# Altium footprint library QFN.PcbLib: 17 footprints (part 1 of 2)
Each footprint in its own frame and in the unit in brackets; x right, y up, seen from the top. Pads: shape width x height; smd on the part's side, far side on the other; paste and mask are expansions set on the pad; w line width, h text height; cw(c..) or ccw(c..) is an arc to the next point about the centre after c.
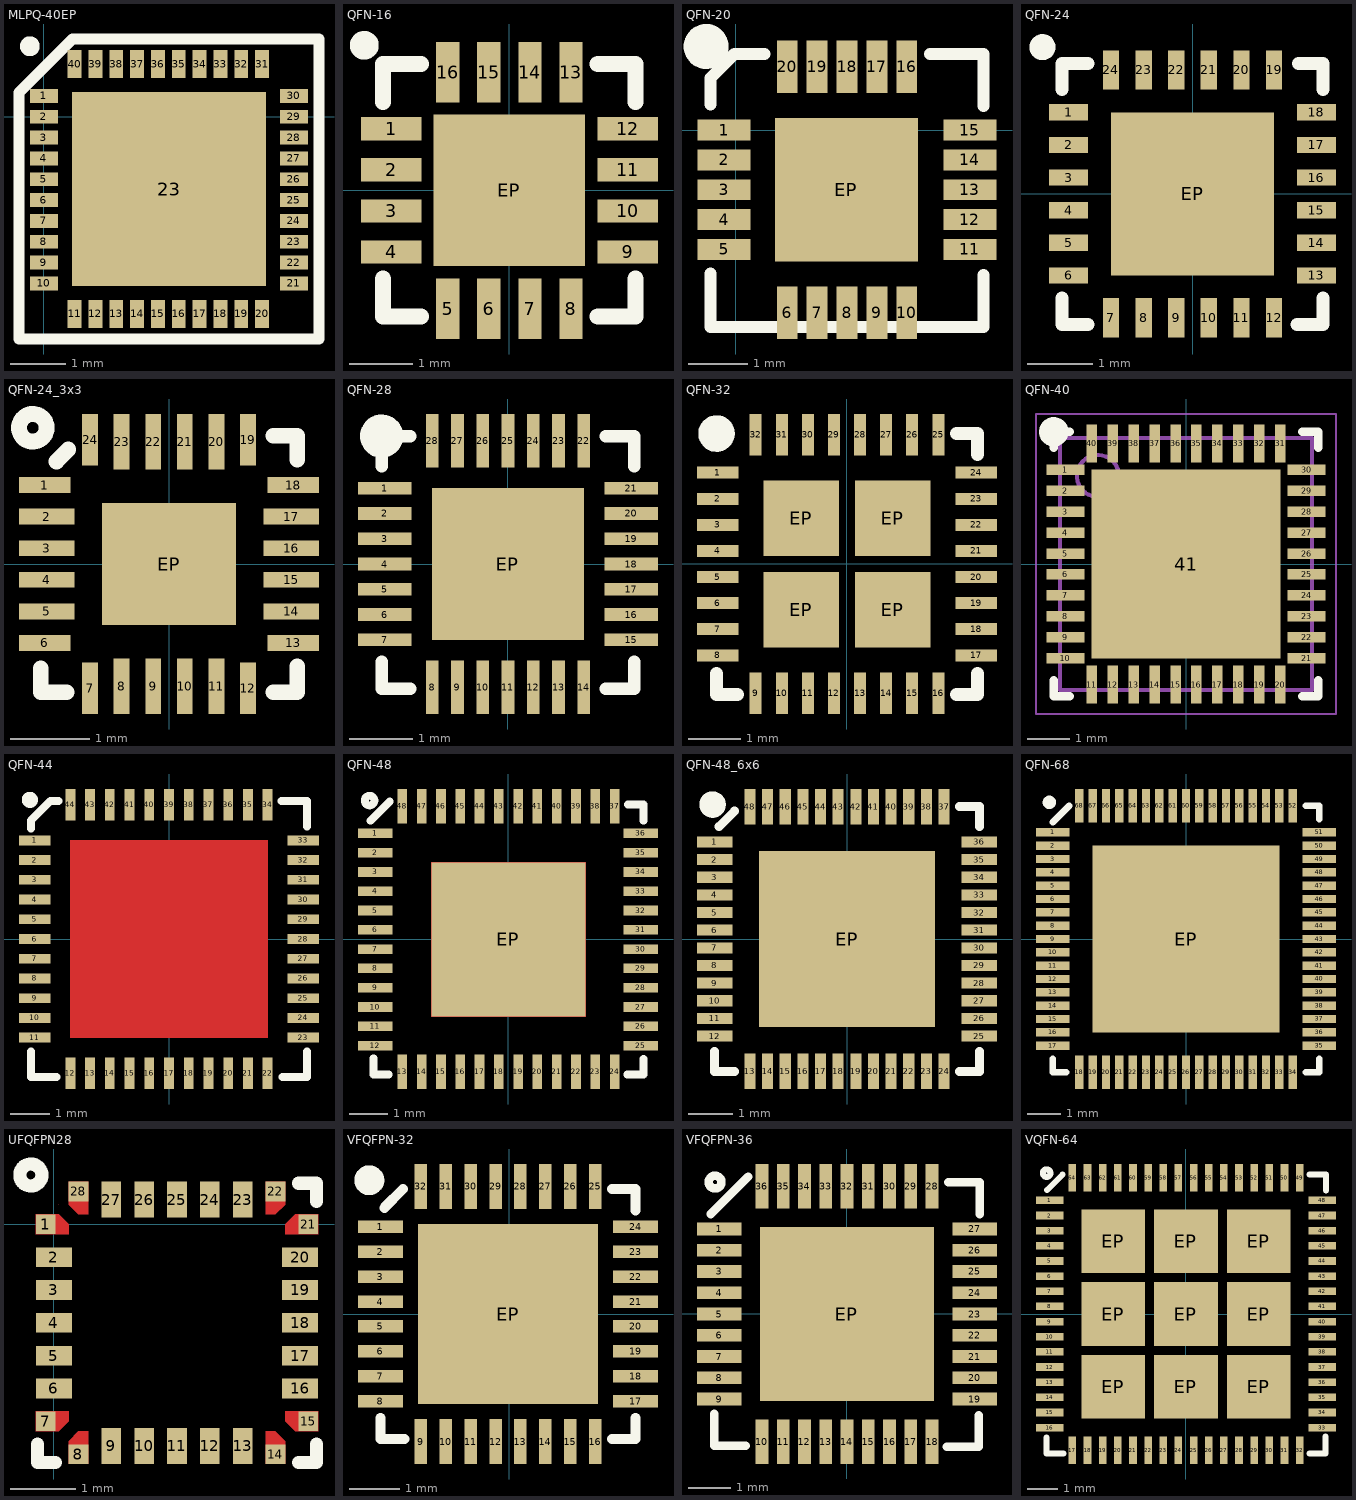
[diagram p0: the footprints below, top view; thin cyan lines are the x and y axes]

## MLPQ-40EP [mm]
pads (41):
  rect 0.5x0.25 smd: 1(0,0.375) 2(0,0) 3(0,-0.375) 4(0,-0.75) 5(0,-1.125) 6(0,-1.5) 7(0,-1.875) 8(0,-2.25) 9(0,-2.625) 10(0,-3) 21(4.5,-3) 22(4.5,-2.625) 23(4.5,-2.25) 24(4.5,-1.875) 25(4.5,-1.5) 26(4.5,-1.125) 27(4.5,-0.75) 28(4.5,-0.375) 29(4.5,0) 30(4.5,0.375)
  rect 0.25x0.5 smd: 11(0.55,-3.55) 12(0.925,-3.55) 13(1.3,-3.55) 14(1.675,-3.55) 15(2.05,-3.55) 16(2.425,-3.55) 17(2.8,-3.55) 18(3.175,-3.55) 19(3.55,-3.55) 20(3.925,-3.55) 31(3.925,0.95) 32(3.55,0.95) 33(3.175,0.95) 34(2.8,0.95) 35(2.425,0.95) 36(2.05,0.95) 37(1.675,0.95) 38(1.3,0.95) 39(0.925,0.95) 40(0.55,0.95)
  rect 3.5x3.5 smd: 23(2.25,-1.3)
Top Overlay:
  circle w0.254: c-0.254,1.27 r0.05
  lines w0.2: -0.45,-4 4.95,-4 4.95,1.212 4.95,1.4 0.511,1.4 -0.45,0.439 -0.45,-4
3D body "User Library-QFN 40 5x5.STEP": height 0.73, standoff -0.02, extent -0.251,-3.801 4.751,1.201

## QFN-16 [mm]
pads (17):
  rect 0.96x0.37 smd: 1(-1.875,0.975) 2(-1.875,0.325) 3(-1.875,-0.325) 4(-1.875,-0.975) 9(1.875,-0.975) 10(1.875,-0.325) 11(1.875,0.325) 12(1.875,0.975)
  rect 0.37x0.96 smd: 5(-0.975,-1.875) 6(-0.325,-1.875) 7(0.325,-1.875) 8(0.975,-1.875) 13(0.975,1.875) 14(0.325,1.875) 15(-0.325,1.875) 16(-0.975,1.875)
  rect 2.4x2.4 smd: EP(0,0)
Top Overlay:
  circle w0.254: c-2.3,2.3 r0.1
  lines w0.254: -2,-1.4 -2,-2 -1.4,-2 ; -2,1.4 -2,2 -1.4,2 ; 1.4,-2 2,-2 2,-1.4 ; 1.4,2 2,2 2,1.4
3D body "User Library-qfn16-4x4with pad.STEP": height 0.92, standoff 0, extent -2,-2 2,2

## QFN-20 [mm]
pads (21):
  rect 0.88x0.35 smd: 1(-0.2,0) 2(-0.2,-0.5) 3(-0.2,-1) 4(-0.2,-1.5) 5(-0.2,-2) 11(3.92,-2) 12(3.92,-1.5) 13(3.92,-1) 14(3.92,-0.5) 15(3.92,0)
  rect 0.35x0.88 smd: 6(0.86,-3.06) 7(1.36,-3.06) 8(1.86,-3.06) 9(2.36,-3.06) 10(2.86,-3.06) 16(2.86,1.06) 17(2.36,1.06) 18(1.86,1.06) 19(1.36,1.06) 20(0.86,1.06)
  rect 2.4x2.4 smd: EP(1.85,-1)
Top Overlay:
  circle w0.5: c-0.5,1.4 r0.125
  lines w0.2: -0.425,-2.4 -0.425,-3.3 4.15,-3.3 4.15,-2.425 ; -0.425,0.425 -0.425,0.875 -0.025,1.275 0.475,1.275 ; 3.25,1.275 4.15,1.275 4.15,0.4
3D body "User Library-qfn20-4x4 (1).step": height 0.92, standoff 0, extent -0.15,-2.995 3.85,1.005

## QFN-24 [mm]
pads (25):
  rect 0.6x0.25 smd: 1(-1.9,1.25) 2(-1.9,0.75) 3(-1.9,0.25) 4(-1.9,-0.25) 5(-1.9,-0.75) 6(-1.9,-1.25) 13(1.9,-1.25) 14(1.9,-0.75) 15(1.9,-0.25) 16(1.9,0.25) 17(1.9,0.75) 18(1.9,1.25)
  rect 0.25x0.6 smd: 7(-1.25,-1.9) 8(-0.75,-1.9) 9(-0.25,-1.9) 10(0.25,-1.9) 11(0.75,-1.9) 12(1.25,-1.9) 19(1.25,1.9) 20(0.75,1.9) 21(0.25,1.9) 22(-0.25,1.9) 23(-0.75,1.9) 24(-1.25,1.9)
  rect 2.5x2.5 smd: EP(0,0)
Top Overlay:
  circle w0.2: c-2.3,2.25 r0.1
  lines w0.2: -2,-1.6 -2,-2 -1.6,-2 ; -2,1.6 -2,2 -1.6,2 ; 1.6,-2 2,-2 2,-1.6 ; 1.625,2 2,2 2,1.6
3D body "QFN-24.step": height 0.9, standoff 0, extent -2,-2.004 2.004,2

## QFN-24_3x3 [mm]
pads (25):
  rect 0.65x0.2 smd: 1(-1.575,1) 6(-1.575,-1) 13(1.575,-1) 18(1.575,1)
  rect 0.7x0.2 smd: 2(-1.55,0.6) 3(-1.55,0.2) 4(-1.55,-0.2) 5(-1.55,-0.6) 14(1.55,-0.6) 15(1.55,-0.2) 16(1.55,0.2) 17(1.55,0.6)
  rect 0.2x0.65 smd: 7(-1,-1.575) 12(1,-1.575) 19(1,1.575) 24(-1,1.575)
  rect 0.2x0.7 smd: 8(-0.6,-1.55) 9(-0.2,-1.55) 10(0.2,-1.55) 11(0.6,-1.55) 20(0.6,1.55) 21(0.2,1.55) 22(-0.2,1.55) 23(-0.6,1.55)
  rect 1.7x1.54 smd: EP(0,0)
Top Overlay:
  circle w0.2: c-1.725,1.725 r0.175
  lines w0.2: -1.625,-1.325 -1.625,-1.625 -1.3,-1.625 ; -1.425,1.3 -1.275,1.45 ; 1.325,-1.625 1.625,-1.625 1.625,-1.3 ; 1.325,1.625 1.625,1.625 1.625,1.325
3D body "User Library-QFN-16_3x3.STEP": height 0.9, standoff 0, extent -1.524,-1.521 1.518,1.521

## QFN-28 [mm] "QFN-28"
pads (29):
  rect 0.85x0.2 smd: 1(-1.95,1.2) 2(-1.95,0.8) 3(-1.95,0.4) 4(-1.95,0) 5(-1.95,-0.4) 6(-1.95,-0.8) 7(-1.95,-1.2) 15(1.95,-1.2) 16(1.95,-0.8) 17(1.95,-0.4) 18(1.95,0) 19(1.95,0.4) 20(1.95,0.8) 21(1.95,1.2)
  rect 0.2x0.85 smd: 8(-1.2,-1.95) 9(-0.8,-1.95) 10(-0.4,-1.95) 11(0,-1.95) 12(0.4,-1.95) 13(0.8,-1.95) 14(1.2,-1.95) 22(1.2,1.95) 23(0.8,1.95) 24(0.4,1.95) 25(0,1.95) 26(-0.4,1.95) 27(-0.8,1.95) 28(-1.2,1.95)
  rect 2.4x2.4 smd: EP(0,0)
Top Overlay:
  circle w0.254: c-2,2.025 r0.215
  lines w0.2: -2,-1.55 -2,-1.975 -1.55,-1.975 ; -2,1.55 -2,2.025 -1.55,2.025 ; 1.55,-1.975 2,-1.975 2,-1.55 ; 1.55,2.025 2,2.025 2,1.55
3D body "User Library-QFN28-0_4.STEP": height 0.75, standoff 0, extent -2,-1.975 2,2.025

## QFN-32 [mm]
pads (36):
  rect 0.8x0.23 smd: 1(-2.475,1.75) 2(-2.475,1.25) 3(-2.475,0.75) 4(-2.475,0.25) 5(-2.475,-0.25) 6(-2.475,-0.75) 7(-2.475,-1.25) 8(-2.475,-1.75) 17(2.475,-1.75) 18(2.475,-1.25) 19(2.475,-0.75) 20(2.475,-0.25) 21(2.475,0.25) 22(2.475,0.75) 23(2.475,1.25) 24(2.475,1.75)
  rect 0.23x0.8 smd: 9(-1.75,-2.475) 10(-1.25,-2.475) 11(-0.75,-2.475) 12(-0.25,-2.475) 13(0.25,-2.475) 14(0.75,-2.475) 15(1.25,-2.475) 16(1.75,-2.475) 25(1.75,2.475) 26(1.25,2.475) 27(0.75,2.475) 28(0.25,2.475) 29(-0.25,2.475) 30(-0.75,2.475) 31(-1.25,2.475) 32(-1.75,2.475)
  rect 1.45x1.45 smd: EP(-0.875,-0.875) EP(-0.875,0.875) EP(0.875,-0.875) EP(0.875,0.875)
Top Overlay:
  circle w0.2: c-2.5,2.5 r0.056
  circle w0.2: c-2.5,2.5 r0.25
  lines w0.254: -2.5,-2.1 -2.5,-2.5 -2.1,-2.5 ; 2.1,-2.5 2.5,-2.5 2.5,-2.1 ; 2.1,2.5 2.5,2.5 2.5,2.1
3D body "User Library-QFN-32-5x5 - EQ.STEP": height 0.85, standoff 0, extent -2.5,-2.5 2.5,2.5

## QFN-40 [mm] "QFN, 40-Leads, Body 6,00x6,00mm, Pitch 0,50mm, Thermal Pad 4,50x4,50mm, IPC Medium Density"
height 0.9
pads (41):
  rect 0.9x0.25 smd: 1(-2.875,2.25) 2(-2.875,1.75) 3(-2.875,1.25) 4(-2.875,0.75) 5(-2.875,0.25) 6(-2.875,-0.25) 7(-2.875,-0.75) 8(-2.875,-1.25) 9(-2.875,-1.75) 10(-2.875,-2.25) 21(2.875,-2.25) 22(2.875,-1.75) 23(2.875,-1.25) 24(2.875,-0.75) 25(2.875,-0.25) 26(2.875,0.25) 27(2.875,0.75) 28(2.875,1.25) 29(2.875,1.75) 30(2.875,2.25)
  rect 0.25x0.9 smd: 11(-2.25,-2.875) 12(-1.75,-2.875) 13(-1.25,-2.875) 14(-0.75,-2.875) 15(-0.25,-2.875) 16(0.25,-2.875) 17(0.75,-2.875) 18(1.25,-2.875) 19(1.75,-2.875) 20(2.25,-2.875) 31(2.25,2.875) 32(1.75,2.875) 33(1.25,2.875) 34(0.75,2.875) 35(0.25,2.875) 36(-0.25,2.875) 37(-0.75,2.875) 38(-1.25,2.875) 39(-1.75,2.875) 40(-2.25,2.875)
  rect 4.5x4.5 smd: 41(0,0)
Top Overlay:
  circle w0.25: c-3.15,3.15 r0.226
  lines w0.2: -3.15,-2.775 -3.15,-3.15 -2.775,-3.15 ; -3.15,2.775 -3.15,3.15 -2.775,3.15 ; 2.775,-3.15 3.15,-3.15 3.15,-2.775 ; 2.775,3.15 3.15,3.15 3.15,2.775
Mechanical 1:
  circle w0.1: c-2.1,2.1 r0.5
  lines w0.1: -3,-3 -3,3 3,3 3,-3 -3,-3
Mechanical 15:
  lines w0.05: -3.575,-3.575 -3.575,3.575 3.575,3.575 3.575,-3.575 -3.575,-3.575
  lines w0.1: -0.5,0 0.5,0 ; 0,-0.5 0,0.5
3D body "QFN-40.step": height 0.9, standoff 0, extent -3.01,-3.01 3.01,3.01

## QFN-44 [mm] "QFN 44pin 7x7mm"
pads (44):
  rect 0.8x0.25 smd: 1(-3.4,2.5) 2(-3.4,2) 3(-3.4,1.5) 4(-3.4,1) 5(-3.4,0.5) 6(-3.4,0) 7(-3.4,-0.5) 8(-3.4,-1) 9(-3.4,-1.5) 10(-3.4,-2) 11(-3.4,-2.5) 23(3.4,-2.5) 24(3.4,-2) 25(3.4,-1.5) 26(3.4,-1) 27(3.4,-0.5) 28(3.4,0) 29(3.4,0.5) 30(3.4,1) 31(3.4,1.5) 32(3.4,2) 33(3.4,2.5)
  rect 0.25x0.8 smd: 12(-2.5,-3.4) 13(-2,-3.4) 14(-1.5,-3.4) 15(-1,-3.4) 16(-0.5,-3.4) 17(0,-3.4) 18(0.5,-3.4) 19(1,-3.4) 20(1.5,-3.4) 21(2,-3.4) 22(2.5,-3.4) 34(2.5,3.4) 35(2,3.4) 36(1.5,3.4) 37(1,3.4) 38(0.5,3.4) 39(0,3.4) 40(-0.5,3.4) 41(-1,3.4) 42(-1.5,3.4) 43(-2,3.4) 44(-2.5,3.4)
Top Layer:
  region: -2.5,2.5 -2.5,-2.5 2.5,-2.5 2.5,2.5
Top Overlay:
  circle w0.2: c-3.525,3.525 r0.103
  lines w0.2: -3.5,-2.85 -3.5,-3.5 -2.85,-3.5 ; -3.5,2.8 -3.5,3 -3,3.5 -2.8,3.5 ; 2.85,3.5 3.5,3.5 3.5,2.85 ; 2.875,-3.5 3.5,-3.5 3.5,-2.85
Top Solder:
  region: 2.16,-2.16 2.16,-1.23 1.23,-1.23 1.23,-2.16
  region: 1.03,-2.16 1.03,-1.23 0.1,-1.23 0.1,-2.16
  region: -0.1,-2.16 -0.1,-1.23 -1.03,-1.23 -1.03,-2.16
  region: -1.23,-2.16 -1.23,-1.23 -2.16,-1.23 -2.16,-2.16
  region: 2.16,-1.03 2.16,-0.1 1.23,-0.1 1.23,-1.03
  region: 1.03,-1.03 1.03,-0.1 0.1,-0.1 0.1,-1.03
  region: -0.1,-1.03 -0.1,-0.1 -1.03,-0.1 -1.03,-1.03
  region: -1.23,-1.03 -1.23,-0.1 -2.16,-0.1 -2.16,-1.03
  region: 2.16,0.1 2.16,1.03 1.23,1.03 1.23,0.1
  region: 1.03,0.1 1.03,1.03 0.1,1.03 0.1,0.1
  region: -0.1,0.1 -0.1,1.03 -1.03,1.03 -1.03,0.1
  region: -1.23,0.1 -1.23,1.03 -2.16,1.03 -2.16,0.1
  region: 2.16,1.23 2.16,2.16 1.23,2.16 1.23,1.23
  region: 1.03,1.23 1.03,2.16 0.1,2.16 0.1,1.23
  region: -0.1,1.23 -0.1,2.16 -1.03,2.16 -1.03,1.23
  region: -1.23,2.16 -2.16,2.16 -2.16,1.23 -1.23,1.23
3D body "User Library-smd_qfn-44-2.STEP": height 0.9, standoff 0, extent -3.501,-3.501 3.501,3.501

## QFN-48 [mm]
pads (49):
  rect 0.9x0.25 smd: 1(-3.45,2.75) 2(-3.45,2.25) 3(-3.45,1.75) 4(-3.45,1.25) 5(-3.45,0.75) 6(-3.45,0.25) 7(-3.45,-0.25) 8(-3.45,-0.75) 9(-3.45,-1.25) 10(-3.45,-1.75) 11(-3.45,-2.25) 12(-3.45,-2.75) 25(3.425,-2.75) 26(3.425,-2.25) 27(3.425,-1.75) 28(3.425,-1.25) 29(3.425,-0.75) 30(3.425,-0.25) 31(3.425,0.25) 32(3.425,0.75) 33(3.425,1.25) 34(3.425,1.75) 35(3.425,2.25) 36(3.425,2.75)
  rect 0.25x0.9 smd: 13(-2.75,-3.425) 14(-2.25,-3.425) 15(-1.75,-3.425) 16(-1.25,-3.425) 17(-0.75,-3.425) 18(-0.25,-3.425) 19(0.25,-3.425) 20(0.75,-3.425) 21(1.25,-3.425) 22(1.75,-3.425) 23(2.25,-3.425) 24(2.75,-3.425) 37(2.75,3.45) 38(2.25,3.45) 39(1.75,3.45) 40(1.25,3.45) 41(0.75,3.45) 42(0.25,3.45) 43(-0.25,3.45) 44(-0.75,3.45) 45(-1.25,3.45) 46(-1.75,3.45) 47(-2.25,3.45) 48(-2.75,3.45)
  rect 4x4 smd paste+0 mask-2: EP(0,0)
Top Layer:
  region: -2,2 -2,-2 2,-2 2,2
Top Overlay:
  circle w0.2: c-3.6,3.6 r0.125
  lines w0.2: -3.575,3.075 -3.075,3.575 ; -3.5,-3.075 -3.5,-3.5 -3.1,-3.5 ; 3.075,-3.5 3.5,-3.5 3.5,-3.1 ; 3.1,3.5 3.5,3.5 3.5,3.075
Top Solder:
  region: -1.23,2.16 -2.16,2.16 -2.16,1.23 -1.23,1.23
  region: -0.1,1.23 -0.1,2.16 -1.03,2.16 -1.03,1.23
  region: 1.03,1.23 1.03,2.16 0.1,2.16 0.1,1.23
  region: 2.16,1.23 2.16,2.16 1.23,2.16 1.23,1.23
  region: -1.23,0.1 -1.23,1.03 -2.16,1.03 -2.16,0.1
  region: -0.1,0.1 -0.1,1.03 -1.03,1.03 -1.03,0.1
  region: 1.03,0.1 1.03,1.03 0.1,1.03 0.1,0.1
  region: 2.16,0.1 2.16,1.03 1.23,1.03 1.23,0.1
  region: -1.23,-1.03 -1.23,-0.1 -2.16,-0.1 -2.16,-1.03
  region: -0.1,-1.03 -0.1,-0.1 -1.03,-0.1 -1.03,-1.03
  region: 1.03,-1.03 1.03,-0.1 0.1,-0.1 0.1,-1.03
  region: 2.16,-1.03 2.16,-0.1 1.23,-0.1 1.23,-1.03
  region: -1.23,-2.16 -1.23,-1.23 -2.16,-1.23 -2.16,-2.16
  region: -0.1,-2.16 -0.1,-1.23 -1.03,-1.23 -1.03,-2.16
  region: 1.03,-2.16 1.03,-1.23 0.1,-1.23 0.1,-2.16
  region: 2.16,-2.16 2.16,-1.23 1.23,-1.23 1.23,-2.16
3D body "User Library-QFN48_7x7.STEP": height 0.78, standoff -0.02, extent -3.5,-3.51 3.52,3.51

## QFN-48_6x6 [mm]
pads (49):
  rect 0.8x0.25 smd: 1(-3,2.2) 2(-3,1.8) 3(-3,1.4) 4(-3,1) 5(-3,0.6) 6(-3,0.2) 7(-3,-0.2) 8(-3,-0.6) 9(-3,-1) 10(-3,-1.4) 11(-3,-1.8) 12(-3,-2.2) 25(3,-2.2) 26(3,-1.8) 27(3,-1.4) 28(3,-1) 29(3,-0.6) 30(3,-0.2) 31(3,0.2) 32(3,0.6) 33(3,1) 34(3,1.4) 35(3,1.8) 36(3,2.2)
  rect 0.25x0.8 smd: 13(-2.2,-3) 14(-1.8,-3) 15(-1.4,-3) 16(-1,-3) 17(-0.6,-3) 18(-0.2,-3) 19(0.2,-3) 20(0.6,-3) 21(1,-3) 22(1.4,-3) 23(1.8,-3) 24(2.2,-3) 37(2.2,3) 38(1.8,3) 39(1.4,3) 40(1,3) 41(0.6,3) 42(0.2,3) 43(-0.2,3) 44(-0.6,3) 45(-1,3) 46(-1.4,3) 47(-1.8,3) 48(-2.2,3)
  rect 4x4 smd: EP(0,0)
Top Overlay:
  circle w0.3: c-3.048,3.048 r0.15
  lines w0.2: -3,-2.55 -3,-3 -2.55,-3 ; -2.9,2.55 -2.55,2.9 ; 2.55,-3 3,-3 3,-2.55 ; 2.55,3 3,3 3,2.55
3D body "User Library-QFN48.step": height 0.85, standoff -0.02, extent -3.021,-3.016 3.019,3.024

## QFN-68 [mm]
pads (69):
  rect 1x0.25 smd: 1(-4,3.2) 2(-4,2.8) 3(-4,2.4) 4(-4,2) 5(-4,1.6) 6(-4,1.2) 7(-4,0.8) 8(-4,0.4) 9(-4,0) 10(-4,-0.4) 11(-4,-0.8) 12(-4,-1.2) 13(-4,-1.6) 14(-4,-2) 15(-4,-2.4) 16(-4,-2.8) 17(-4,-3.2) 35(4,-3.2) 36(4,-2.8) 37(4,-2.4) 38(4,-2) 39(4,-1.6) 40(4,-1.2) 41(4,-0.8) 42(4,-0.4) 43(4,0) 44(4,0.4) 45(4,0.8) 46(4,1.2) 47(4,1.6) 48(4,2) 49(4,2.4) 50(4,2.8) 51(4,3.2)
  rect 0.25x1 smd: 18(-3.2,-4) 19(-2.8,-4) 20(-2.4,-4) 21(-2,-4) 22(-1.6,-4) 23(-1.2,-4) 24(-0.8,-4) 25(-0.4,-4) 26(0,-4) 27(0.4,-4) 28(0.8,-4) 29(1.2,-4) 30(1.6,-4) 31(2,-4) 32(2.4,-4) 33(2.8,-4) 34(3.2,-4) 52(3.2,4) 53(2.8,4) 54(2.4,4) 55(2,4) 56(1.6,4) 57(1.2,4) 58(0.8,4) 59(0.4,4) 60(0,4) 61(-0.4,4) 62(-0.8,4) 63(-1.2,4) 64(-1.6,4) 65(-2,4) 66(-2.4,4) 67(-2.8,4) 68(-3.2,4)
  rect 5.6x5.6 smd: EP(0,0)
Top Overlay:
  circle w0.2: c-4.1,4.1 r0.1
  lines w0.2: -4,-3.6 -4,-4 -3.6,-4 ; -4,3.5 -3.5,4 ; 3.6,-4 4,-4 4,-3.6 ; 3.6,4 4,4 4,3.6
Top Solder:
  region: -2.9,2.9 -1.7,2.9 -1.7,1.7 -2.9,1.7
  region: 0.2,1.4 1.4,1.4 1.4,0.2 0.2,0.2
  region: -1.4,1.4 -0.2,1.4 -0.2,0.2 -1.4,0.2
  region: 0.2,-0.2 1.4,-0.2 1.4,-1.4 0.2,-1.4
  region: -1.4,-0.2 -0.2,-0.2 -0.2,-1.4 -1.4,-1.4
  region: 1.7,-0.2 2.9,-0.2 2.9,-1.4 1.7,-1.4
  region: 1.7,1.4 2.9,1.4 2.9,0.2 1.7,0.2
  region: 1.7,-1.7 2.9,-1.7 2.9,-2.9 1.7,-2.9
  region: 0.2,-1.7 1.4,-1.7 1.4,-2.9 0.2,-2.9
  region: -1.4,-1.7 -0.2,-1.7 -0.2,-2.9 -1.4,-2.9
  region: -2.9,-1.7 -1.7,-1.7 -1.7,-2.9 -2.9,-2.9
  region: -2.9,-0.2 -1.7,-0.2 -1.7,-1.4 -2.9,-1.4
  region: -2.9,1.4 -1.7,1.4 -1.7,0.2 -2.9,0.2
  region: 1.7,2.9 2.9,2.9 2.9,1.7 1.7,1.7
  region: 0.2,2.9 1.4,2.9 1.4,1.7 0.2,1.7
  region: -1.4,2.9 -0.2,2.9 -0.2,1.7 -1.4,1.7
3D body "User Library-QFN68(8x8mm).step": height 0.85, standoff 0, extent -4.02,-4.02 4.02,4.02

## UFQFPN28 [mm]
pads (28):
  rect 0.3x0.3 smd: 1(-0.125,0) 7(-0.125,-3) 8(0.375,-3.5) 14(3.375,-3.5) 15(3.875,-3) 21(3.875,0) 22(3.375,0.5) 28(0.375,0.5)
  rect 0.55x0.3 smd: 2(0,-0.5) 3(0,-1) 4(0,-1.5) 5(0,-2) 6(0,-2.5) 16(3.75,-2.5) 17(3.75,-2) 18(3.75,-1.5) 19(3.75,-1) 20(3.75,-0.5)
  rect 0.3x0.55 smd: 9(0.875,-3.375) 10(1.375,-3.375) 11(1.875,-3.375) 12(2.375,-3.375) 13(2.875,-3.375) 23(2.875,0.375) 24(2.375,0.375) 25(1.875,0.375) 26(1.375,0.375) 27(0.875,0.375)
Top Layer:
  region: 0.225,0.65 0.225,0.3 0.375,0.15 0.525,0.15 0.525,0.65
  region: -0.275,0.15 0.075,0.15 0.225,0 0.225,-0.15 -0.275,-0.15
  region: 0.225,-3.65 0.225,-3.3 0.375,-3.15 0.525,-3.15 0.525,-3.65
  region: -0.275,-3.15 0.075,-3.15 0.225,-3 0.225,-2.85 -0.275,-2.85
  region: 4.025,-3.15 3.675,-3.15 3.525,-3 3.525,-2.85 4.025,-2.85
  region: 3.525,-3.65 3.525,-3.3 3.375,-3.15 3.225,-3.15 3.225,-3.65
  region: 3.525,0.65 3.525,0.3 3.375,0.15 3.225,0.15 3.225,0.65
  region: 4.025,0.15 3.675,0.15 3.525,0 3.525,-0.15 4.025,-0.15
  lines w0: 0.075,0.3 0.075,0.3
Top Overlay:
  circle w0.2: c-0.35,0.75 r0.168
  lines w0.2: -0.25,-3.35 -0.25,-3.625 0.025,-3.625 ; 3.725,-3.625 4,-3.625 4,-3.35 ; 3.725,0.625 4,0.625 4,0.35
3D body "User Library-qfn20-4x4.step": height 0.92, standoff 0, extent -0.125,-3.5 3.875,0.5

## VFQFPN-32 [mm]
pads (33):
  rect 0.9x0.25 smd: 1(-2.575,1.75) 2(-2.575,1.25) 3(-2.575,0.75) 4(-2.575,0.25) 5(-2.575,-0.25) 6(-2.575,-0.75) 7(-2.575,-1.25) 8(-2.575,-1.75) 17(2.525,-1.75) 18(2.525,-1.25) 19(2.525,-0.75) 20(2.525,-0.25) 21(2.525,0.25) 22(2.525,0.75) 23(2.525,1.25) 24(2.525,1.75)
  rect 0.25x0.9 smd: 9(-1.775,-2.55) 10(-1.275,-2.55) 11(-0.775,-2.55) 12(-0.275,-2.55) 13(0.225,-2.55) 14(0.725,-2.55) 15(1.225,-2.55) 16(1.725,-2.55) 25(1.725,2.55) 26(1.225,2.55) 27(0.725,2.55) 28(0.225,2.55) 29(-0.275,2.55) 30(-0.775,2.55) 31(-1.275,2.55) 32(-1.775,2.55)
  rect 3.6x3.6 smd: EP(-0.025,0)
Top Overlay:
  circle w0.3: c-2.8,2.675 r0.15
  lines w0.2: -2.575,-2.075 -2.575,-2.5 -2.1,-2.5 ; -2.5,2.125 -2.125,2.5 ; 2.05,-2.5 2.525,-2.5 2.525,-2.075 ; 2.05,2.5 2.525,2.5 2.525,2.075
3D body "User Library-QFN-32-5x5 - EQ.STEP": height 0.85, standoff 0, extent -2.575,-2.5 2.425,2.5

## VFQFPN-36 [mm] "VFQFPN-36 package"
pads (37):
  rect 1.05x0.3 smd paste+0: 1(-3,2) 2(-3,1.5) 3(-3,1) 4(-3,0.5) 5(-3,0) 6(-3,-0.5) 7(-3,-1) 8(-3,-1.5) 9(-3,-2) 19(3,-2) 20(3,-1.5) 21(3,-1) 22(3,-0.5) 23(3,0) 24(3,0.5) 25(3,1) 26(3,1.5) 27(3,2)
  rect 0.3x1.05 smd paste+0: 10(-2,-3) 11(-1.5,-3) 12(-1,-3) 13(-0.5,-3) 14(0,-3) 15(0.5,-3) 16(1,-3) 17(1.5,-3) 18(2,-3) 28(2,3) 29(1.5,3) 30(1,3) 31(0.5,3) 32(0,3) 33(-0.5,3) 34(-1,3) 35(-1.5,3) 36(-2,3)
  rect 4.1x4.1 smd paste+0: EP(0,0)
Top Overlay:
  circle w0.2: c-3.1,3.1 r0.15
  lines w0.2: -3.2,2.35 -2.325,3.225 ; -3.125,-2.35 -3.125,-3.1 -2.375,-3.1 ; 2.35,-3.125 3.1,-3.125 3.1,-2.375 ; 2.375,3.1 3.125,3.1 3.125,2.35
3D body "User Library-QFN36 (6x6).STEP": height 0.9, standoff 0.01, extent -3.102,-3.103 3.103,3.103

## VQFN-64 [mm]
pads (73):
  rect 0.9x0.25 smd: 1(-4.5,3.75) 2(-4.5,3.25) 3(-4.5,2.75) 4(-4.5,2.25) 5(-4.5,1.75) 6(-4.5,1.25) 7(-4.5,0.75) 8(-4.5,0.25) 9(-4.5,-0.25) 10(-4.5,-0.75) 11(-4.5,-1.25) 12(-4.5,-1.75) 13(-4.5,-2.25) 14(-4.5,-2.75) 15(-4.5,-3.25) 16(-4.5,-3.75) 33(4.5,-3.75) 34(4.5,-3.25) 35(4.5,-2.75) 36(4.5,-2.25) 37(4.5,-1.75) 38(4.5,-1.25) 39(4.5,-0.75) 40(4.5,-0.25) 41(4.5,0.25) 42(4.5,0.75) 43(4.5,1.25) 44(4.5,1.75) 45(4.5,2.25) 46(4.5,2.75) 47(4.5,3.25) 48(4.5,3.75)
  rect 0.25x0.9 smd: 17(-3.75,-4.5) 18(-3.25,-4.5) 19(-2.75,-4.5) 20(-2.25,-4.5) 21(-1.75,-4.5) 22(-1.25,-4.5) 23(-0.75,-4.5) 24(-0.25,-4.5) 25(0.25,-4.5) 26(0.75,-4.5) 27(1.25,-4.5) 28(1.75,-4.5) 29(2.25,-4.5) 30(2.75,-4.5) 31(3.25,-4.5) 32(3.75,-4.5) 49(3.75,4.5) 50(3.25,4.5) 51(2.75,4.5) 52(2.25,4.5) 53(1.75,4.5) 54(1.25,4.5) 55(0.75,4.5) 56(0.25,4.5) 57(-0.25,4.5) 58(-0.75,4.5) 59(-1.25,4.5) 60(-1.75,4.5) 61(-2.25,4.5) 62(-2.75,4.5) 63(-3.25,4.5) 64(-3.75,4.5)
  rect 2.1x2.1 smd mask+0.2: EP(-2.4,-2.4) EP(-2.4,0) EP(-2.4,2.4) EP(0,-2.4) EP(0,0) EP(0,2.4) EP(2.4,-2.4) EP(2.4,0) EP(2.4,2.4)
Top Overlay:
  circle w0.2: c-4.6,4.65 r0.125
  lines w0.2: -4.6,-4.075 -4.6,-4.6 -4.05,-4.6 ; -4.587,4.088 -4.075,4.6 ; 4.075,-4.6 4.6,-4.6 4.6,-4.05 ; 4.075,4.6 4.625,4.6 4.625,4.075
3D body "User Library-vqfn-64.STEP": height 1.05, standoff 0, extent -4.56,-4.575 4.61,4.595